# EAGLE library part 428527520917 (library Wurth_Elektronik_Electromechanic_Switch_rev15d)
WS-RCT-10x10 mm washable THT Rotary Switch,6 pins,16 positions
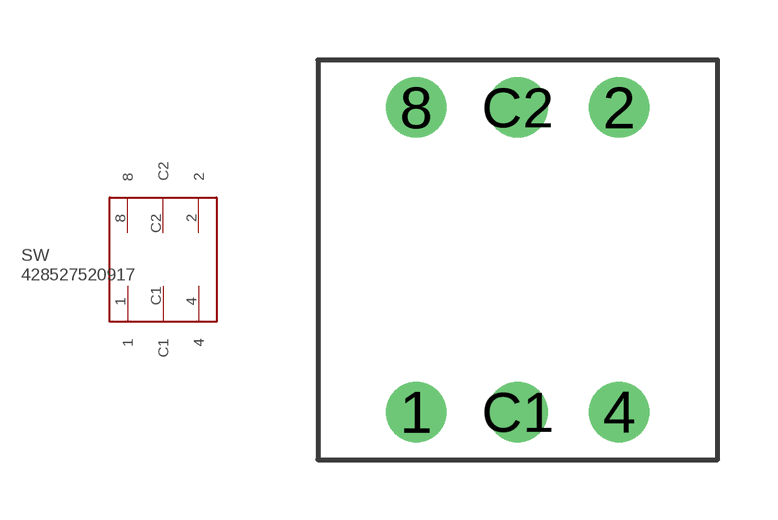
[diagram p7: symbol with the pads of 428527520917; footprint 428527520917]

Designator prefix SW

## 428527520917  [428527520917]
1  1
2  2
4  4
8  8
C1  C1
C2  C2

## Footprint 428527520917 (pad centres in mm)
WS-RCT-10x10 mm washable THT Rotary Switch,6 pins,16 positions
drill 1: 1 -2.54,-3.81; 2 2.54,3.81; 4 2.54,-3.81; 8 -2.54,3.81; C1 0,-3.81; C2 0,3.81